# EAGLE library part SDCARD_CON (library xess)
SD/MMC Card Connector
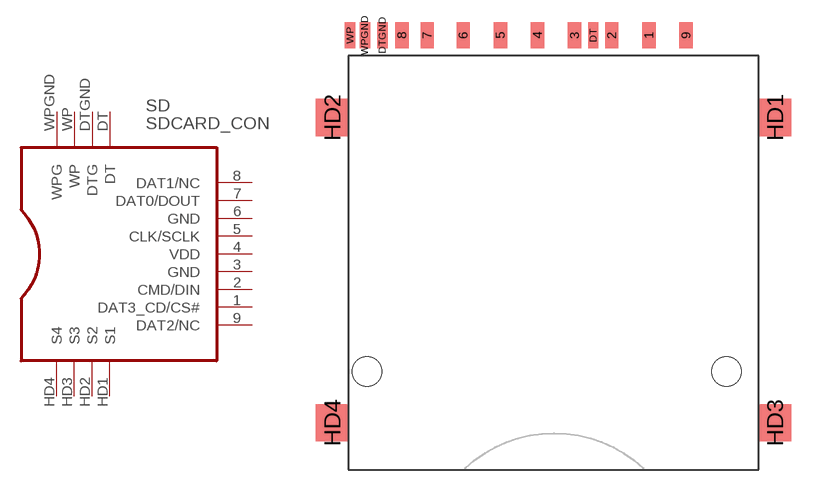
[diagram p79: symbol with the pads of SG3S013V1A; footprint SG3S013V1A]

Designator prefix SD

## SDCARD_CONSG3S013V1A  [SG3S013V1A]
1  DAT3_CD/CS#
2  CMD/DIN  in
3  GND  pas
4  VDD  pas
5  CLK/SCLK  in
6  GND  pas
7  DAT0/DOUT
8  DAT1/NC
9  DAT2/NC
DT  DT  out
DTGND  DTG  pas
HD1  S1  pas
HD2  S2  pas
HD3  S3  pas
HD4  S4  pas
WP  WP  out
WPGND  WPG  pas

## Footprint SG3S013V1A (pad centres in mm)
JAE SG3S013V1A SD card socket.
smd 0.9 x 1.75: 1 6.875,22.63; 2 4.375,22.63; 3 1.875,22.63; 4 -0.625,22.63; 5 -3.125,22.63; 6 -5.625,22.63; 7 -8.05,22.63; 8 -9.75,22.63; 9 9.375,22.63
smd 0.7 x 1.75: DT 3.125,22.63; DTGND -11.05,22.63; WP -13.24,22.63; WPGND -12.24,22.63
smd 2.2 x 2.5: HD1 15.35,17.1; HD2 -14.45,17.1; HD3 15.35,-3.45; HD4 -14.45,-3.45
hole 2 at -12.1,0
hole 2 at 12.1,0